# Altium schematic symbol library BC548B.SchLib: 1 symbol
Pins are listed as number, name and electrical type; pins without a type are passive.

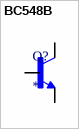
[diagram p0: symbol BC548B]

## BC548B
designator Q?
Bipolar (BJT) Transistor NPN 30 V 100 mA 300MHz 625 mW Through Hole TO-92 (TO-226); MF: ON Semiconductor; MP: BC548B; Price: None; Availability: In Stock; SnapEDA_Link: https://www.snapeda.com/parts/BC548B/Onsemi/view-part/?ref=snap; Value: *; Purchase-URL: https://pricing.snapeda.com/search/part/BC548B/?ref=eda; Package: E-PKG AXIAL-LEADED-2 ON Semiconductor; Check_prices: https://www.snapeda.com/parts/BC548B/Onsemi/view-part/?ref=eda
footprint BC548B
pins: 1 C, 2 B, 3 E